# EAGLE library part BQ24210DQCT (library PatternAgents-TI)
Single Cell Li-Ion Battery Solar Charger
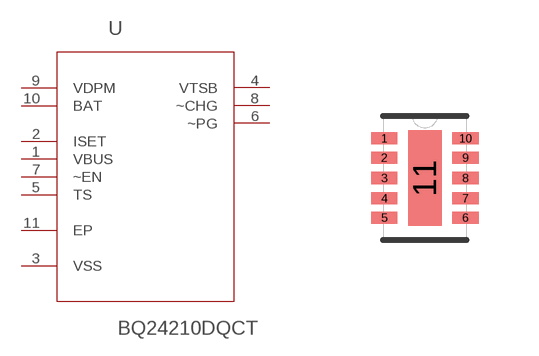
[diagram p8: symbol with the pads of SON50P200X300X80-11N; footprint SON50P200X300X80-11N]

Designator prefix U

## BQ24210DQCT (MPN: BQ24210DQCT; OC_FARNELL: 1903633; OC_NEWARK: 56T0491; PACKAGE: SON-10; SUPPLIER: TEXAS INSTRUMENTS)  [SON50P200X300X80-11N]
1  VBUS
2  ISET  in
3  VSS  pas
4  VTSB  out
5  TS  in
6  ~PG  out
7  ~EN  in
8  ~CHG  out
9  VDPM  in
10  BAT
11  EP  pas

## Footprint SON50P200X300X80-11N (pad centres in mm)
smd 0.66 x 0.305: 1 -1.016,0.991; 2 -1.016,0.508; 3 -1.016,0; 4 -1.016,-0.508; 5 -1.016,-0.991; 6 1.016,-0.991; 7 1.016,-0.508; 8 1.016,0; 9 1.016,0.508; 10 1.016,0.991
smd 0.838 x 2.388: 11 0,0